# Altium footprint library 2EDGKA-5.0-05P-14-00A(H).PcbLib: 1 footprints
Each footprint in its own frame and in the unit in brackets; x right, y up, seen from the top. Pads: shape width x height; smd on the part's side, far side on the other; paste and mask are expansions set on the pad; w line width, h text height; cw(c..) or ccw(c..) is an arc to the next point about the centre after c.

## 2EDGKA-5.0-05P-14-00A(H) [mm]
3D body "pxc_1792045_04_MVSTBR-2-5-5-ST_3D.stp": height 17.27, standoff -8.76, extent -0.035,0 25.022,12.52